# Altium footprint library RT_Pad_2mmx1.5mm.PcbLib: 1 footprints
Each footprint in its own frame and in the unit in brackets; x right, y up, seen from the top. Pads: shape width x height; smd on the part's side, far side on the other; paste and mask are expansions set on the pad; w line width, h text height; cw(c..) or ccw(c..) is an arc to the next point about the centre after c.
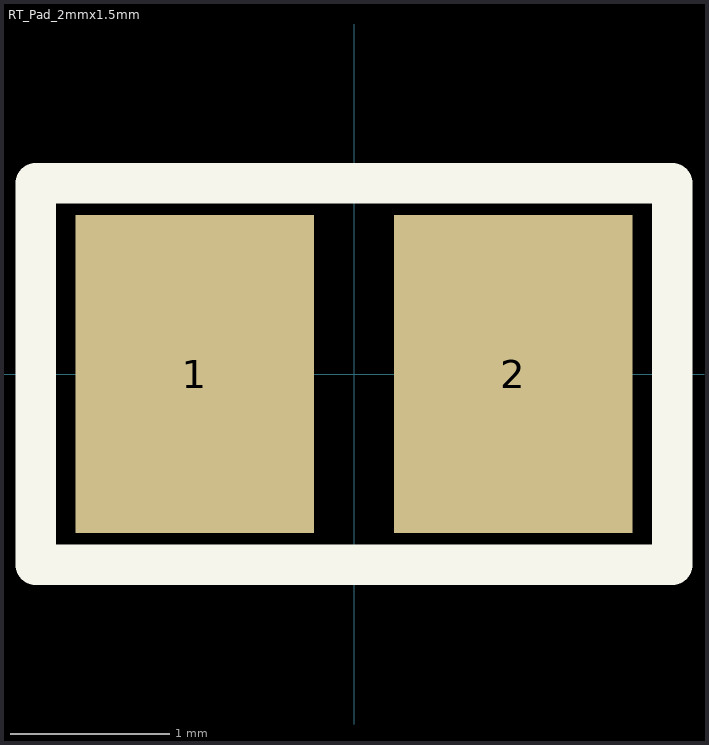
[diagram p0: the footprint, top view; thin cyan lines are the x and y axes]

## RT_Pad_2mmx1.5mm [mm]
pads (2):
  rect 1.5x2 smd: 1(-1,0) 2(1,0)
Top Overlay:
  lines w0.254: -2,-1.2 2,-1.2 2,1.2 -2,1.2 -2,-1.2